# Altium footprint library Package_SO.PcbLib: 393 footprints (part 17 of 25)
Each footprint in its own frame and in the unit in brackets; x right, y up, seen from the top. Pads: shape width x height; smd on the part's side, far side on the other; paste and mask are expansions set on the pad; w line width, h text height; cw(c..) or ccw(c..) is an arc to the next point about the centre after c.
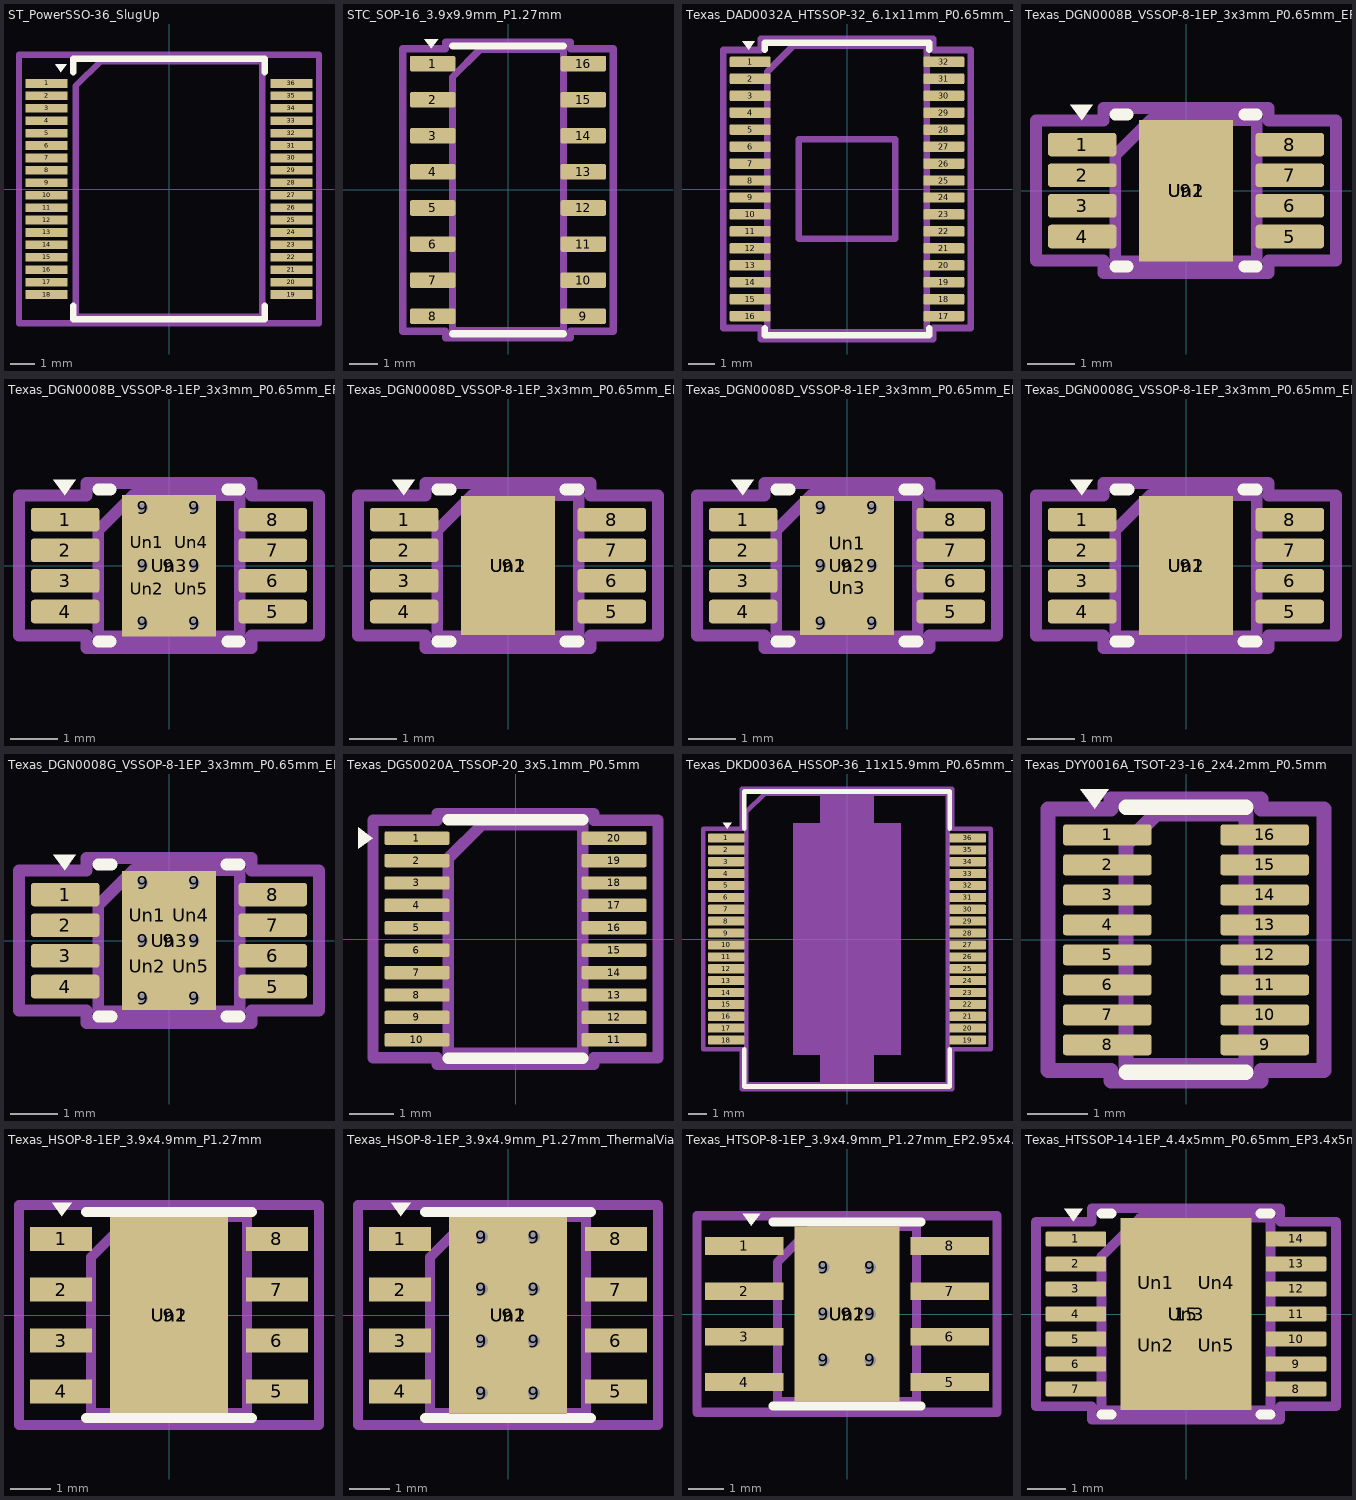
[diagram p16: the footprints below, top view; thin cyan lines are the x and y axes]

## ST_PowerSSO-36_SlugUp [mm]
pads (36):
  rect 1.7x0.35 smd: 1(-4.932,4.25) 2(-4.932,3.75) 3(-4.932,3.25) 4(-4.932,2.75) 5(-4.932,2.25) 6(-4.932,1.75) 7(-4.932,1.25) 8(-4.932,0.75) 9(-4.932,0.25) 10(-4.932,-0.25) 11(-4.932,-0.75) 12(-4.932,-1.25) 13(-4.932,-1.75) 14(-4.932,-2.25) 15(-4.932,-2.75) 16(-4.932,-3.25) 17(-4.932,-3.75) 18(-4.932,-4.25) 19(4.932,-4.25) 20(4.932,-3.75) 21(4.932,-3.25) 22(4.932,-2.75) 23(4.932,-2.25) 24(4.932,-1.75) 25(4.932,-1.25) 26(4.932,-0.75) 27(4.932,-0.25) 28(4.932,0.25) 29(4.932,0.75) 30(4.932,1.25) 31(4.932,1.75) 32(4.932,2.25) 33(4.932,2.75) 34(4.932,3.25) 35(4.932,3.75) 36(4.932,4.25)
F.SilkS:
  region: -4.35,4.7 -4.59,5.03 -4.11,5.03
  lines w0.254: -3.85,-4.7 -3.85,-5.25 3.85,-5.25 3.85,-4.7 ; -3.85,4.7 -3.85,5.25 3.85,5.25 3.85,4.7
Top Assembly:
  lines w0.254: -3.75,-5.15 3.75,-5.15 3.75,5.15 -2.75,5.15 -3.75,4.15 -3.75,-5.15
  text "'.Designator'" at -4.047,-0.84 h1
Top Courtyard:
  lines w0.254: -6.04,-5.4 6.04,-5.4 6.04,5.4 -6.04,5.4 -6.04,-5.4
Top Designator:
  text ".Designator" at -7.618,-0.508 h1.52

## STC_SOP-16_3.9x9.9mm_P1.27mm [mm]
pads (16):
  rrect25% 1.6x0.55 smd: 1(-2.65,4.445) 2(-2.65,3.175) 3(-2.65,1.905) 4(-2.65,0.635) 5(-2.65,-0.635) 6(-2.65,-1.905) 7(-2.65,-3.175) 8(-2.65,-4.445) 9(2.65,-4.445) 10(2.65,-3.175) 11(2.65,-1.905) 12(2.65,-0.635) 13(2.65,0.635) 14(2.65,1.905) 15(2.65,3.175) 16(2.65,4.445)
F.SilkS:
  region: -2.7,4.98 -2.94,5.31 -2.46,5.31
  lines w0.254: -1.95,-5.06 0,-5.06 1.95,-5.06 ; -1.95,5.06 0,5.06 1.95,5.06
Top Assembly:
  lines w0.254: -1.95,-4.95 1.95,-4.95 1.95,4.95 -0.975,4.95 -1.95,3.975 -1.95,-4.95
  text "'.Designator'" at -3.969,-0.827 h0.98
Top Courtyard:
  lines w0.254: -3.7,-4.97 -2.2,-4.97 -2.2,-5.2 2.2,-5.2 2.2,-4.97 3.7,-4.97 3.7,4.97 2.2,4.97 2.2,5.2 -2.2,5.2 -2.2,4.97 -3.7,4.97 -3.7,-4.97
Top Designator:
  text ".Designator" at -7.763,-0.508 h1.52

## Texas_DAD0032A_HTSSOP-32_6.1x11mm_P0.65mm_TopEP3.71x3.81mm [mm]
pads (32):
  rrect25% 1.575x0.4 smd: 1(-3.712,4.875) 2(-3.712,4.225) 3(-3.712,3.575) 4(-3.712,2.925) 5(-3.712,2.275) 6(-3.712,1.625) 7(-3.712,0.975) 8(-3.712,0.325) 9(-3.712,-0.325) 10(-3.712,-0.975) 11(-3.712,-1.625) 12(-3.712,-2.275) 13(-3.712,-2.925) 14(-3.712,-3.575) 15(-3.712,-4.225) 16(-3.712,-4.875) 17(3.712,-4.875) 18(3.712,-4.225) 19(3.712,-3.575) 20(3.712,-2.925) 21(3.712,-2.275) 22(3.712,-1.625) 23(3.712,-0.975) 24(3.712,-0.325) 25(3.712,0.325) 26(3.712,0.975) 27(3.712,1.625) 28(3.712,2.275) 29(3.712,2.925) 30(3.712,3.575) 31(3.712,4.225) 32(3.712,4.875)
F.SilkS:
  region: -3.775,5.335 -4.015,5.665 -3.535,5.665
  lines w0.254: -3.16,-5.335 -3.16,-5.61 0,-5.61 3.16,-5.61 3.16,-5.335 ; -3.16,5.335 -3.16,5.61 0,5.61 3.16,5.61 3.16,5.335
Top Assembly:
  lines w0.254: -3.05,-5.5 3.05,-5.5 3.05,5.5 -2.05,5.5 -3.05,4.5 -3.05,-5.5
  text "'.Designator'" at -4.047,-0.84 h1
Top Courtyard:
  lines w0.254: -4.75,-5.33 -3.3,-5.33 -3.3,-5.75 3.3,-5.75 3.3,-5.33 4.75,-5.33 4.75,5.33 3.3,5.33 3.3,5.75 -3.3,5.75 -3.3,5.33 -4.75,5.33 -4.75,-5.33
Top Designator:
  text ".Designator" at -7.618,-0.508 h1.52
Cmts.User:
  lines w0.254: -1.855,-1.905 1.855,-1.905 1.855,1.905 -1.855,1.905 -1.855,-1.905

## Texas_DGN0008B_VSSOP-8-1EP_3x3mm_P0.65mm_EP2x3mm_Mask1.88x1.98mm [mm]
pads (11):
  rrect25% 1.45x0.5 smd: 1(-2.2,0.975) 2(-2.2,0.325) 3(-2.2,-0.325) 4(-2.2,-0.975) 5(2.2,-0.975) 6(2.2,-0.325) 7(2.2,0.325) 8(2.2,0.975)
  rect 2x3 smd: 9(0,0)
  rrect16% 1.52x1.6 on Top Paste: Un1(0,0)
  rect 1.88x1.98 on Top Solder: Un2(0,0)
F.SilkS:
  region: -2.213,1.485 -2.452,1.815 -1.973,1.815
  lines w0.254: -1.5,-1.61 -1.236,-1.61 ; -1.5,1.61 -1.236,1.61 ; 1.236,-1.61 1.5,-1.61 ; 1.236,1.61 1.5,1.61
Top Assembly:
  lines w0.254: -1.5,-1.5 1.5,-1.5 1.5,1.5 -0.75,1.5 -1.5,0.75 -1.5,-1.5
  text "'.Designator'" at -3.033,-0.628 h0.75
Top Courtyard:
  lines w0.254: -3.18,-1.48 -1.75,-1.48 -1.75,-1.75 1.75,-1.75 1.75,-1.48 3.18,-1.48 3.18,1.48 1.75,1.48 1.75,1.75 -1.75,1.75 -1.75,1.48 -3.18,1.48 -3.18,-1.48
Top Designator:
  text ".Designator" at -7.618,-0.508 h1.52

## Texas_DGN0008B_VSSOP-8-1EP_3x3mm_P0.65mm_EP2x3mm_Mask1.88x1.98mm_ThermalVias [mm]
pads (21):
  rrect25% 1.45x0.5 smd: 1(-2.2,0.975) 2(-2.2,0.325) 3(-2.2,-0.325) 4(-2.2,-0.975) 5(2.2,-0.975) 6(2.2,-0.325) 7(2.2,0.325) 8(2.2,0.975)
  round 0.5 hole 0.2: 9(-0.55,-1.22) 9(-0.55,0) 9(-0.55,1.22) 9(0.55,-1.22) 9(0.55,0) 9(0.55,1.22)
  rect 2x3 smd: 9(0,0)
  rect 1.6x2.94 smd far side: 9(0,0)
  rrect25% 0.81x0.86 on Top Paste: Un1(-0.47,0.495) Un2(-0.47,-0.495) Un4(0.47,0.495) Un5(0.47,-0.495)
  rect 1.88x1.98 on Top Solder: Un3(0,0)
F.SilkS:
  region: -2.213,1.485 -2.452,1.815 -1.973,1.815
  lines w0.254: -1.5,-1.61 -1.236,-1.61 ; -1.5,1.61 -1.236,1.61 ; 1.236,-1.61 1.5,-1.61 ; 1.236,1.61 1.5,1.61
Top Assembly:
  lines w0.254: -1.5,-1.5 1.5,-1.5 1.5,1.5 -0.75,1.5 -1.5,0.75 -1.5,-1.5
  text "'.Designator'" at -3.033,-0.628 h0.75
Top Courtyard:
  lines w0.254: -3.18,-1.48 -1.75,-1.48 -1.75,-1.75 1.75,-1.75 1.75,-1.48 3.18,-1.48 3.18,1.48 1.75,1.48 1.75,1.75 -1.75,1.75 -1.75,1.48 -3.18,1.48 -3.18,-1.48
Top Designator:
  text ".Designator" at -7.618,-0.508 h1.52

## Texas_DGN0008D_VSSOP-8-1EP_3x3mm_P0.65mm_EP2x2.94mm_Mask1.57x1.89mm [mm]
pads (11):
  rrect25% 1.45x0.5 smd: 1(-2.2,0.975) 2(-2.2,0.325) 3(-2.2,-0.325) 4(-2.2,-0.975) 5(2.2,-0.975) 6(2.2,-0.325) 7(2.2,0.325) 8(2.2,0.975)
  rect 2x2.94 smd: 9(0,0)
  rrect20% 1.27x1.52 on Top Paste: Un1(0,0)
  rect 1.57x1.89 on Top Solder: Un2(0,0)
F.SilkS:
  region: -2.213,1.485 -2.452,1.815 -1.973,1.815
  lines w0.254: -1.5,-1.61 -1.219,-1.61 ; -1.5,1.61 -1.219,1.61 ; 1.219,-1.61 1.5,-1.61 ; 1.219,1.61 1.5,1.61
Top Assembly:
  lines w0.254: -1.5,-1.5 1.5,-1.5 1.5,1.5 -0.75,1.5 -1.5,0.75 -1.5,-1.5
  text "'.Designator'" at -3.033,-0.628 h0.75
Top Courtyard:
  lines w0.254: -3.18,-1.48 -1.75,-1.48 -1.75,-1.75 1.75,-1.75 1.75,-1.48 3.18,-1.48 3.18,1.48 1.75,1.48 1.75,1.75 -1.75,1.75 -1.75,1.48 -3.18,1.48 -3.18,-1.48
Top Designator:
  text ".Designator" at -7.618,-0.508 h1.52

## Texas_DGN0008D_VSSOP-8-1EP_3x3mm_P0.65mm_EP2x2.94mm_Mask1.57x1.89mm_ThermalVias [mm]
pads (19):
  rrect25% 1.45x0.5 smd: 1(-2.2,0.975) 2(-2.2,0.325) 3(-2.2,-0.325) 4(-2.2,-0.975) 5(2.2,-0.975) 6(2.2,-0.325) 7(2.2,0.325) 8(2.2,0.975)
  round 0.5 hole 0.2: 9(-0.55,-1.22) 9(-0.55,0) 9(-0.55,1.22) 9(0.55,-1.22) 9(0.55,0) 9(0.55,1.22)
  rect 2x2.94 smd: 9(0,0)
  rect 1.6x2.94 smd far side: 9(0,0)
  rrect25% 1.36x0.82 on Top Paste: Un1(0,0.47) Un3(0,-0.47)
  rect 1.57x1.89 on Top Solder: Un2(0,0)
F.SilkS:
  region: -2.213,1.485 -2.452,1.815 -1.973,1.815
  lines w0.254: -1.5,-1.61 -1.219,-1.61 ; -1.5,1.61 -1.219,1.61 ; 1.219,-1.61 1.5,-1.61 ; 1.219,1.61 1.5,1.61
Top Assembly:
  lines w0.254: -1.5,-1.5 1.5,-1.5 1.5,1.5 -0.75,1.5 -1.5,0.75 -1.5,-1.5
  text "'.Designator'" at -3.033,-0.628 h0.75
Top Courtyard:
  lines w0.254: -3.18,-1.48 -1.75,-1.48 -1.75,-1.75 1.75,-1.75 1.75,-1.48 3.18,-1.48 3.18,1.48 1.75,1.48 1.75,1.75 -1.75,1.75 -1.75,1.48 -3.18,1.48 -3.18,-1.48
Top Designator:
  text ".Designator" at -7.618,-0.508 h1.52

## Texas_DGN0008G_VSSOP-8-1EP_3x3mm_P0.65mm_EP2x2.94mm_Mask1.846x2.15mm [mm]
pads (11):
  rrect25% 1.45x0.5 smd: 1(-2.2,0.975) 2(-2.2,0.325) 3(-2.2,-0.325) 4(-2.2,-0.975) 5(2.2,-0.975) 6(2.2,-0.325) 7(2.2,0.325) 8(2.2,0.975)
  rect 2x2.94 smd: 9(0,0)
  rrect17% 1.49x1.73 on Top Paste: Un1(0,0)
  rect 1.846x2.15 on Top Solder: Un2(0,0)
F.SilkS:
  region: -2.213,1.485 -2.452,1.815 -1.973,1.815
  lines w0.254: -1.5,-1.61 -1.219,-1.61 ; -1.5,1.61 -1.219,1.61 ; 1.219,-1.61 1.5,-1.61 ; 1.219,1.61 1.5,1.61
Top Assembly:
  lines w0.254: -1.5,-1.5 1.5,-1.5 1.5,1.5 -0.75,1.5 -1.5,0.75 -1.5,-1.5
  text "'.Designator'" at -3.033,-0.628 h0.75
Top Courtyard:
  lines w0.254: -3.18,-1.48 -1.75,-1.48 -1.75,-1.75 1.75,-1.75 1.75,-1.48 3.18,-1.48 3.18,1.48 1.75,1.48 1.75,1.75 -1.75,1.75 -1.75,1.48 -3.18,1.48 -3.18,-1.48
Top Designator:
  text ".Designator" at -7.618,-0.508 h1.52

## Texas_DGN0008G_VSSOP-8-1EP_3x3mm_P0.65mm_EP2x2.94mm_Mask1.846x2.15mm_ThermalVias [mm]
pads (21):
  rrect25% 1.45x0.5 smd: 1(-2.2,0.975) 2(-2.2,0.325) 3(-2.2,-0.325) 4(-2.2,-0.975) 5(2.2,-0.975) 6(2.2,-0.325) 7(2.2,0.325) 8(2.2,0.975)
  round 0.5 hole 0.2: 9(-0.55,-1.22) 9(-0.55,0) 9(-0.55,1.22) 9(0.55,-1.22) 9(0.55,0) 9(0.55,1.22)
  rect 2x2.94 smd: 9(0,0)
  rect 1.6x2.94 smd far side: 9(0,0)
  rrect25% 0.8x0.93 on Top Paste: Un1(-0.46,0.54) Un2(-0.46,-0.54) Un4(0.46,0.54) Un5(0.46,-0.54)
  rect 1.846x2.15 on Top Solder: Un3(0,0)
F.SilkS:
  region: -2.213,1.485 -2.452,1.815 -1.973,1.815
  lines w0.254: -1.5,-1.61 -1.219,-1.61 ; -1.5,1.61 -1.219,1.61 ; 1.219,-1.61 1.5,-1.61 ; 1.219,1.61 1.5,1.61
Top Assembly:
  lines w0.254: -1.5,-1.5 1.5,-1.5 1.5,1.5 -0.75,1.5 -1.5,0.75 -1.5,-1.5
  text "'.Designator'" at -3.033,-0.628 h0.75
Top Courtyard:
  lines w0.254: -3.18,-1.48 -1.75,-1.48 -1.75,-1.75 1.75,-1.75 1.75,-1.48 3.18,-1.48 3.18,1.48 1.75,1.48 1.75,1.75 -1.75,1.75 -1.75,1.48 -3.18,1.48 -3.18,-1.48
Top Designator:
  text ".Designator" at -7.618,-0.508 h1.52

## Texas_DGS0020A_TSSOP-20_3x5.1mm_P0.5mm [mm]
pads (20):
  rrect25% 1.45x0.3 smd: 1(-2.2,2.25) 2(-2.2,1.75) 3(-2.2,1.25) 4(-2.2,0.75) 5(-2.2,0.25) 6(-2.2,-0.25) 7(-2.2,-0.75) 8(-2.2,-1.25) 9(-2.2,-1.75) 10(-2.2,-2.25) 11(2.2,-2.25) 12(2.2,-1.75) 13(2.2,-1.25) 14(2.2,-0.75) 15(2.2,-0.25) 16(2.2,0.25) 17(2.2,0.75) 18(2.2,1.25) 19(2.2,1.75) 20(2.2,2.25)
F.SilkS:
  region: -3.185,2.25 -3.515,2.01 -3.515,2.49
  lines w0.254: -1.5,-2.66 0,-2.66 1.5,-2.66 ; -1.5,2.66 0,2.66 1.5,2.66
Top Assembly:
  lines w0.254: -1.5,-2.55 1.5,-2.55 1.5,2.55 -0.75,2.55 -1.5,1.8 -1.5,-2.55
  text "'.Designator'" at -3.033,-0.628 h0.75
Top Courtyard:
  lines w0.254: -3.18,-2.65 -1.75,-2.65 -1.75,-2.8 1.75,-2.8 1.75,-2.65 3.18,-2.65 3.18,2.65 1.75,2.65 1.75,2.8 -1.75,2.8 -1.75,2.65 -3.18,2.65 -3.18,-2.65
Top Designator:
  text ".Designator" at -7.722,-0.508 h1.52

## Texas_DKD0036A_HSSOP-36_11x15.9mm_P0.65mm_TopEP5.85x12.65mm [mm]
pads (36):
  rrect25% 2x0.5 smd: 1(-6.6,5.525) 2(-6.6,4.875) 3(-6.6,4.225) 4(-6.6,3.575) 5(-6.6,2.925) 6(-6.6,2.275) 7(-6.6,1.625) 8(-6.6,0.975) 9(-6.6,0.325) 10(-6.6,-0.325) 11(-6.6,-0.975) 12(-6.6,-1.625) 13(-6.6,-2.275) 14(-6.6,-2.925) 15(-6.6,-3.575) 16(-6.6,-4.225) 17(-6.6,-4.875) 18(-6.6,-5.525) 19(6.6,-5.525) 20(6.6,-4.875) 21(6.6,-4.225) 22(6.6,-3.575) 23(6.6,-2.925) 24(6.6,-2.275) 25(6.6,-1.625) 26(6.6,-0.975) 27(6.6,-0.325) 28(6.6,0.325) 29(6.6,0.975) 30(6.6,1.625) 31(6.6,2.275) 32(6.6,2.925) 33(6.6,3.575) 34(6.6,4.225) 35(6.6,4.875) 36(6.6,5.525)
F.SilkS:
  region: -6.55,6.035 -6.79,6.365 -6.31,6.365
  lines w0.254: -5.61,-6.035 -5.61,-8.06 0,-8.06 5.61,-8.06 5.61,-6.035 ; -5.61,6.035 -5.61,8.06 0,8.06 5.61,8.06 5.61,6.035
Top Assembly:
  lines w0.254: -5.5,-7.95 5.5,-7.95 5.5,7.95 -4.5,7.95 -5.5,6.95 -5.5,-7.95
  text "'.Designator'" at -4.047,-0.84 h1
Top Courtyard:
  lines w0.254: -7.85,-6.03 -5.75,-6.03 -5.75,-8.2 5.75,-8.2 5.75,-6.03 7.85,-6.03 7.85,6.03 5.75,6.03 5.75,8.2 -5.75,8.2 -5.75,6.03 -7.85,6.03 -7.85,-6.03
Top Designator:
  text ".Designator" at -7.618,-0.508 h1.52
Cmts.User:
  region: 1.475,6.325 2.925,6.325 2.925,-6.325 1.475,-6.325 1.475,-7.95 -1.475,-7.95 -1.475,-6.325 -2.925,-6.325 -2.925,6.325 -1.475,6.325 -1.475,7.95 1.475,7.95

## Texas_DYY0016A_TSOT-23-16_2x4.2mm_P0.5mm [mm]
pads (16):
  rrect25% 1.475x0.35 smd: 1(-1.312,1.75) 2(-1.312,1.25) 3(-1.312,0.75) 4(-1.312,0.25) 5(-1.312,-0.25) 6(-1.312,-0.75) 7(-1.312,-1.25) 8(-1.312,-1.75) 9(1.312,-1.75) 10(1.312,-1.25) 11(1.312,-0.75) 12(1.312,-0.25) 13(1.312,0.25) 14(1.312,0.75) 15(1.312,1.25) 16(1.312,1.75)
F.SilkS:
  region: -1.525,2.185 -1.765,2.515 -1.285,2.515
  lines w0.254: -1,-2.21 0,-2.21 1,-2.21 ; -1,2.21 0,2.21 1,2.21
Top Assembly:
  lines w0.254: -1,-2.1 1,-2.1 1,2.1 -0.5,2.1 -1,1.6 -1,-2.1
  text "'.Designator'" at -2.028,-0.425 h0.5
Top Courtyard:
  lines w0.254: -2.3,-2.18 -1.25,-2.18 -1.25,-2.35 1.25,-2.35 1.25,-2.18 2.3,-2.18 2.3,2.18 1.25,2.18 1.25,2.35 -1.25,2.35 -1.25,2.18 -2.3,2.18 -2.3,-2.18
Top Designator:
  text ".Designator" at -7.618,-0.489 h1.52

## Texas_HSOP-8-1EP_3.9x4.9mm_P1.27mm [mm]
pads (11):
  rect 1.55x0.6 smd: 1(-2.7,1.905) 2(-2.7,0.635) 3(-2.7,-0.635) 4(-2.7,-1.905) 5(2.7,-1.905) 6(2.7,-0.635) 7(2.7,0.635) 8(2.7,1.905)
  rect 2.95x4.9 smd: 9(0,0)
  rect 2.6x3.1 on Top Solder: Un1(0,0)
  rect 2.6x3.1 on Top Paste: Un2(0,0)
F.SilkS:
  region: -2.675,2.475 -2.915,2.805 -2.435,2.805
  lines w0.254: -2.075,-2.575 2.075,-2.575 ; -2.075,2.575 2.075,2.575
Top Assembly:
  lines w0.254: -1.95,-2.45 1.95,-2.45 1.95,2.45 -0.95,2.45 -1.95,1.45 -1.95,-2.45
  text "'.Designator'" at -3.642,-0.756 h0.9
Top Courtyard:
  lines w0.254: -3.75,-2.75 3.75,-2.75 3.75,2.75 -3.75,2.75 -3.75,-2.75
Top Designator:
  text ".Designator" at -7.618,-0.508 h1.52

## Texas_HSOP-8-1EP_3.9x4.9mm_P1.27mm_ThermalVias [mm]
pads (20):
  rect 1.55x0.6 smd: 1(-2.7,1.905) 2(-2.7,0.635) 3(-2.7,-0.635) 4(-2.7,-1.905) 5(2.7,-1.905) 6(2.7,-0.635) 7(2.7,0.635) 8(2.7,1.905)
  round 0.6 hole 0.3: 9(-0.65,-1.95) 9(-0.65,-0.65) 9(-0.65,0.65) 9(-0.65,1.95) 9(0.65,-1.95) 9(0.65,-0.65) 9(0.65,0.65) 9(0.65,1.95)
  rect 2.95x4.9 smd: 9(0,0)
  rect 2.95x4.9 smd far side: 9(0,0)
  rect 2.6x3.1 on Top Solder: Un1(0,0)
  rect 2.6x3.1 on Top Paste: Un2(0,0)
F.SilkS:
  region: -2.675,2.475 -2.915,2.805 -2.435,2.805
  lines w0.254: -2.075,-2.575 2.075,-2.575 ; -2.075,2.575 2.075,2.575
Top Assembly:
  lines w0.254: -1.95,-2.45 1.95,-2.45 1.95,2.45 -0.95,2.45 -1.95,1.45 -1.95,-2.45
  text "'.Designator'" at -3.642,-0.756 h0.9
Top Courtyard:
  lines w0.254: -3.75,-2.75 3.75,-2.75 3.75,2.75 -3.75,2.75 -3.75,-2.75
Top Designator:
  text ".Designator" at -7.618,-0.508 h1.52

## Texas_HTSOP-8-1EP_3.9x4.9mm_P1.27mm_EP2.95x4.9mm_Mask2.4x3.1mm_ThermalVias [mm]
pads (18):
  rect 2.2x0.5 smd: 1(-2.875,1.905) 2(-2.875,0.635) 3(-2.875,-0.635) 4(-2.875,-1.905) 5(2.875,-1.905) 6(2.875,-0.635) 7(2.875,0.635) 8(2.875,1.905)
  round 0.63 hole 0.33: 9(-0.65,-1.3) 9(-0.65,0) 9(-0.65,1.3) 9(0.65,-1.3) 9(0.65,0) 9(0.65,1.3)
  rect 2.95x4.9 smd: 9(0,0)
  rect 2.6x3.3 smd far side: 9(0,0)
  rect 2.4x3.1 on Top Solder: Un1(0,0)
  rect 2.4x3.1 on Top Paste: Un2(0,0)
F.SilkS:
  region: -2.675,2.475 -2.915,2.805 -2.435,2.805
  lines w0.254: -2.075,-2.575 2.075,-2.575 ; -2.075,2.575 2.075,2.575
Top Assembly:
  lines w0.254: -1.95,-2.45 1.95,-2.45 1.95,2.45 -0.95,2.45 -1.95,1.45 -1.95,-2.45
  text "'.Designator'" at -3.642,-0.756 h0.9
Top Courtyard:
  lines w0.254: -4.2,-2.75 4.2,-2.75 4.2,2.75 -4.2,2.75 -4.2,-2.75
Top Designator:
  text ".Designator" at -7.618,-0.508 h1.52

## Texas_HTSSOP-14-1EP_4.4x5mm_P0.65mm_EP3.4x5mm_Mask3.155x3.255mm [mm]
pads (20):
  rrect25% 1.575x0.4 smd: 1(-2.863,1.95) 2(-2.863,1.3) 3(-2.863,0.65) 4(-2.863,0) 5(-2.863,-0.65) 6(-2.863,-1.3) 7(-2.863,-1.95) 8(2.863,-1.95) 9(2.863,-1.3) 10(2.863,-0.65) 11(2.863,0) 12(2.863,0.65) 13(2.863,1.3) 14(2.863,1.95)
  rect 3.4x5 smd: 15(0,0)
  rrect20% 1.27x1.31 on Top Paste: Un1(-0.79,0.815) Un2(-0.79,-0.815) Un4(0.79,0.815) Un5(0.79,-0.815)
  rect 3.155x3.255 on Top Solder: Un3(0,0)
F.SilkS:
  region: -2.925,2.41 -3.165,2.74 -2.685,2.74
  lines w0.254: -2.2,-2.61 -1.936,-2.61 ; -2.2,2.61 -1.936,2.61 ; 1.936,-2.61 2.2,-2.61 ; 1.936,2.61 2.2,2.61
Top Assembly:
  lines w0.254: -2.2,-2.5 2.2,-2.5 2.2,2.5 -1.2,2.5 -2.2,1.5 -2.2,-2.5
  text "'.Designator'" at -4.047,-0.84 h1
Top Courtyard:
  lines w0.254: -3.9,-2.4 -2.45,-2.4 -2.45,-2.75 2.45,-2.75 2.45,-2.4 3.9,-2.4 3.9,2.4 2.45,2.4 2.45,2.75 -2.45,2.75 -2.45,2.4 -3.9,2.4 -3.9,-2.4
Top Designator:
  text ".Designator" at -7.702,-0.508 h1.52